# EAGLE library part IS62LV256AL-45ULI (library SamacSys_Parts)
SRAM 256K 32Kx8 45ns Async SRAM 3.3v Source: Datasheet <http://www.issi.com/WW/pdf/62-65LV256AL.pdf>
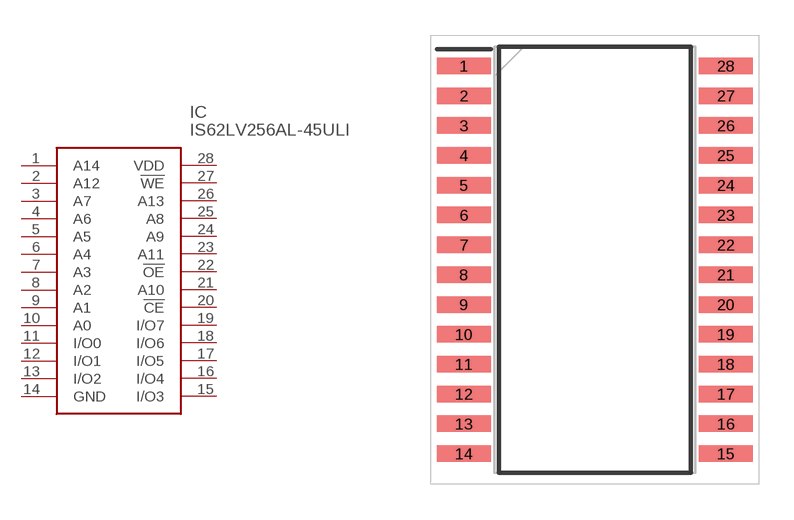
[diagram p120: symbol with the pads of SOIC127P1210X305-28N; footprint SOIC127P1210X305-28N]

Designator prefix IC

## IS62LV256AL-45ULI (DESCRIPTION: SRAM 256K 32Kx8 45ns Async SRAM 3.3v; HEIGHT: 3.05mm; MANUFACTURER_NAME: Integrated Silicon Solution Inc.; MANUFACTURER_PART_NUMBER: IS62LV256AL-45ULI; MOUSER_PART_NUMBER: 870-IS62LV256AL45ULI; MOUSER_PRICE-STOCK: https://www.mouser.co.uk/ProductDetail/ISSI/IS62LV256AL-45ULI?qs=AG1tZYOK7s7aEyPRITqsfQ%3D%3D)  [SOIC127P1210X305-28N]
1  A14
2  A12
3  A7
4  A6
5  A5
6  A4
7  A3
8  A2
9  A1
10  A0
11  I/O0
12  I/O1
13  I/O2
14  GND
15  I/O3
16  I/O4
17  I/O5
18  I/O6
19  I/O7
20  !CE
21  A10
22  !OE
23  A11
24  A9
25  A8
26  A13
27  !WE
28  VDD

## Footprint SOIC127P1210X305-28N (pad centres in mm)
330-mil Plastic SOP, Lead-free
smd 2.3 x 0.7: 1 -5.575,8.255; 2 -5.575,6.985; 3 -5.575,5.715; 4 -5.575,4.445; 5 -5.575,3.175; 6 -5.575,1.905; 7 -5.575,0.635; 8 -5.575,-0.635; 9 -5.575,-1.905; 10 -5.575,-3.175; 11 -5.575,-4.445; 12 -5.575,-5.715; 13 -5.575,-6.985; 14 -5.575,-8.255; 15 5.575,-8.255; 16 5.575,-6.985; 17 5.575,-5.715; 18 5.575,-4.445; 19 5.575,-3.175; 20 5.575,-1.905; 21 5.575,-0.635; 22 5.575,0.635; 23 5.575,1.905; 24 5.575,3.175; 25 5.575,4.445; 26 5.575,5.715; 27 5.575,6.985; 28 5.575,8.255